# EAGLE library part SD1602HULB(-XA-G-G) (library PartsForProto)
超小型ＬＣＤキャラクタディスプレイモジュール ◆１６文字×２行表示 ◆インターフェースＩＣ：ＨＤ４４７８０コンパチブル ◆ＬＥＤバックライト付きで夜間でもハッキリ見えます。 ◆寸法：６６ｘ２６ｘ８ｍｍ
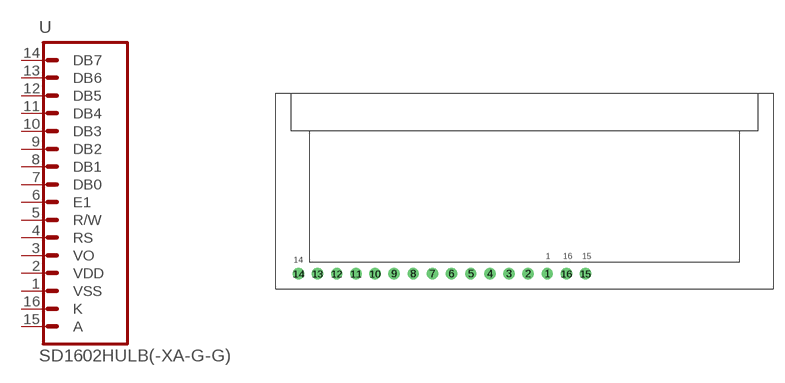
[diagram p13: symbol with the pads of HEADER_16PIN_SD1602; footprint HEADER_16PIN_SD1602]

Designator prefix U

## SD1602HULB(-XA-G-G)  [HEADER_16PIN_SD1602]
1  VSS  pas
2  VDD  pas
3  VO  pas
4  RS
5  R/W
6  E1
7  DB0
8  DB1
9  DB2
10  DB3
11  DB4
12  DB5
13  DB6
14  DB7
15  A  pas
16  K  pas

## Footprint HEADER_16PIN_SD1602 (pad centres in mm)
SD1602HULB(-XA-G-G) 超小型ＬＣＤキャラクタディスプレイモジュール （１６×２行バックライト緑） 寸法：６６ｘ２６ｘ８ｍｍ
drill 1: 1 33.02,0; 2 30.48,0; 3 27.94,0; 4 25.4,0; 5 22.86,0; 6 20.32,0; 7 17.78,0; 8 15.24,0; 9 12.7,0; 10 10.16,0; 11 7.62,0; 12 5.08,0; 13 2.54,0; 14 0,0; 15 38.1,0; 16 35.56,0